# Altium footprint library LED.PcbLib: 48 footprints (part 1 of 3)
Each footprint in its own frame and in the unit in brackets; x right, y up, seen from the top. Pads: shape width x height; smd on the part's side, far side on the other; paste and mask are expansions set on the pad; w line width, h text height; cw(c..) or ccw(c..) is an arc to the next point about the centre after c.
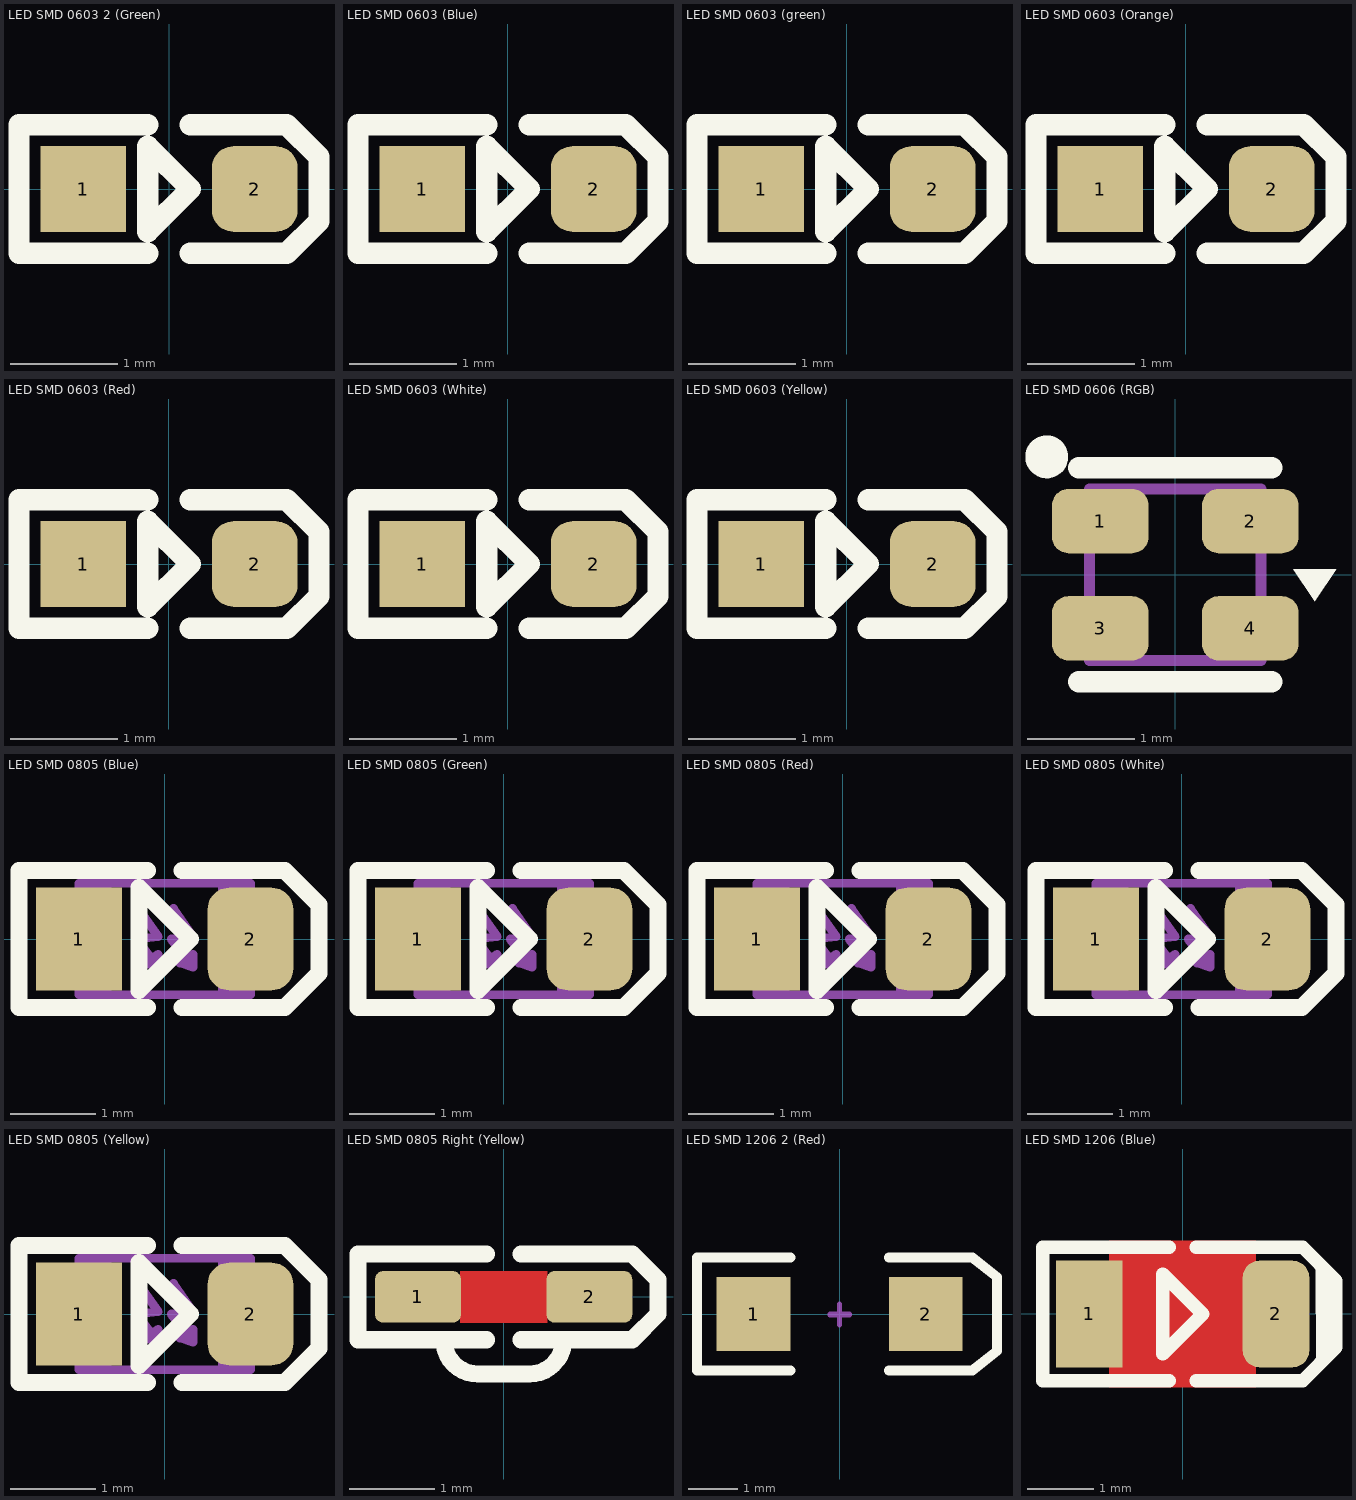
[diagram p0: the footprints below, top view; thin cyan lines are the x and y axes]

## LED SMD 0603 2 (Green) [mm]
pads (2):
  rect 0.8x0.8 smd mask+0.075: 1(-0.8,0)
  rrect50% 0.8x0.8 smd mask+0.075: 2(0.8,0)
Top Overlay:
  lines w0.2: -0.2,-0.6 -1.4,-0.6 -1.4,0.6 -0.2,0.6 ; 0.2,-0.6 1.1,-0.6 1.4,-0.3 1.4,0.3 1.1,0.6 0.2,0.6 ; -0.2,-0.4 -0.2,0.4 0.2,0 -0.2,-0.4
3D body "User Library-LTST-C190GKT.STEP": height 0.9, standoff 0, extent -0.85,-0.45 0.85,0.45

## LED SMD 0603 (Blue) [mm]
pads (2):
  rect 0.8x0.8 smd mask+0.075: 1(-0.8,0)
  rrect50% 0.8x0.8 smd mask+0.075: 2(0.8,0)
Top Overlay:
  lines w0.2: -0.2,-0.6 -1.4,-0.6 -1.4,0.6 -0.2,0.6 ; 0.2,-0.6 1.1,-0.6 1.4,-0.3 1.4,0.3 1.1,0.6 0.2,0.6 ; -0.2,-0.4 0.2,0 -0.2,0.4 -0.2,-0.4
3D body: height 0.5, standoff 0, extent -0.4,-0.3 0.4,0.3
3D body: height 0.4, standoff 0, extent -0.6,-0.4 0.6,0.4
3D body: height 0.4, standoff 0, extent -0.8,-0.4 -0.6,0.4
3D body: height 0.4, standoff 0, extent 0.6,-0.4 0.8,0.4

## LED SMD 0603 (green) [mm]
pads (2):
  rect 0.8x0.8 smd mask+0.075: 1(-0.8,0)
  rrect50% 0.8x0.8 smd mask+0.075: 2(0.8,0)
Top Overlay:
  lines w0.2: -0.2,-0.6 -1.4,-0.6 -1.4,0.6 -0.2,0.6 ; 0.2,-0.6 1.1,-0.6 1.4,-0.3 1.4,0.3 1.1,0.6 0.2,0.6 ; -0.2,-0.4 -0.2,0.4 0.2,0 -0.2,-0.4
3D body: height 0.5, standoff 0, extent -0.4,-0.3 0.4,0.3
3D body: height 0.4, standoff 0, extent -0.6,-0.4 0.6,0.4
3D body: height 0.4, standoff 0, extent -0.8,-0.4 -0.6,0.4
3D body: height 0.4, standoff 0, extent 0.6,-0.4 0.8,0.4

## LED SMD 0603 (Orange) [mm]
pads (2):
  rect 0.8x0.8 smd mask+0.075: 1(-0.8,0)
  rrect50% 0.8x0.8 smd mask+0.075: 2(0.8,0)
Top Overlay:
  lines w0.2: -0.2,-0.6 -1.4,-0.6 -1.4,0.6 -0.2,0.6 ; 0.2,-0.6 1.1,-0.6 1.4,-0.3 1.4,0.3 1.1,0.6 0.2,0.6 ; -0.2,-0.4 -0.2,0.4 0.2,0 -0.2,-0.4
3D body: height 0.4, standoff 0, extent 0.6,-0.4 0.8,0.4
3D body: height 0.4, standoff 0, extent -0.8,-0.4 -0.6,0.4
3D body: height 0.4, standoff 0, extent -0.6,-0.4 0.6,0.4
3D body: height 0.5, standoff 0, extent -0.4,-0.3 0.4,0.3

## LED SMD 0603 (Red) [mm]
pads (2):
  rect 0.8x0.8 smd mask+0.075: 1(-0.8,0)
  rrect50% 0.8x0.8 smd mask+0.075: 2(0.8,0)
Top Overlay:
  lines w0.2: -0.2,-0.6 -1.4,-0.6 -1.4,0.6 -0.2,0.6 ; 0.2,-0.6 1.1,-0.6 1.4,-0.3 1.4,0.3 1.1,0.6 0.2,0.6 ; -0.2,-0.4 0.2,0 -0.2,0.4 -0.2,-0.4
3D body: height 0.4, standoff 0, extent 0.6,-0.4 0.8,0.4
3D body: height 0.4, standoff 0, extent -0.8,-0.4 -0.6,0.4
3D body: height 0.4, standoff 0, extent -0.6,-0.4 0.6,0.4
3D body: height 0.5, standoff 0, extent -0.4,-0.3 0.4,0.3

## LED SMD 0603 (White) [mm]
pads (2):
  rect 0.8x0.8 smd mask+0.075: 1(-0.8,0)
  rrect50% 0.8x0.8 smd mask+0.075: 2(0.8,0)
Top Overlay:
  lines w0.2: -0.2,-0.6 -1.4,-0.6 -1.4,0.6 -0.2,0.6 ; 0.2,-0.6 1.1,-0.6 1.4,-0.3 1.4,0.3 1.1,0.6 0.2,0.6 ; -0.2,-0.4 -0.2,0.4 0.2,0 -0.2,-0.4
3D body: height 0.5, standoff 0, extent -0.4,-0.3 0.4,0.3
3D body: height 0.4, standoff 0, extent -0.6,-0.4 0.6,0.4
3D body: height 0.4, standoff 0, extent -0.8,-0.4 -0.6,0.4
3D body: height 0.4, standoff 0, extent 0.6,-0.4 0.8,0.4

## LED SMD 0603 (Yellow) [mm]
pads (2):
  rect 0.8x0.8 smd mask+0.075: 1(-0.8,0)
  rrect50% 0.8x0.8 smd mask+0.075: 2(0.8,0)
Top Overlay:
  lines w0.2: -0.2,-0.6 -1.4,-0.6 -1.4,0.6 -0.2,0.6 ; 0.2,-0.6 1.1,-0.6 1.4,-0.3 1.4,0.3 1.1,0.6 0.2,0.6 ; -0.2,-0.4 -0.2,0.4 0.2,0 -0.2,-0.4
3D body: height 0.5, standoff 0, extent -0.4,-0.3 0.4,0.3
3D body: height 0.4, standoff 0, extent -0.6,-0.4 0.6,0.4
3D body: height 0.4, standoff 0, extent -0.8,-0.4 -0.6,0.4
3D body: height 0.4, standoff 0, extent 0.6,-0.4 0.8,0.4

## LED SMD 0606 (RGB) [mm]
pads (4):
  rrect50% 0.9x0.6 smd: 1(-0.7,0.5) 2(0.7,0.5) 3(-0.7,-0.5) 4(0.7,-0.5)
Top Overlay:
  circle w0.2: c-1.2,1.1 r0.1
  region: 1.1,0.05 1.5,0.05 1.3,-0.25
  lines w0.2: -0.9,-1 0.9,-1 ; -0.9,1 0.9,1
Mechanical 13:
  lines w0.1: -0.8,-0.8 -0.8,0.8 0.8,0.8 0.8,-0.8 -0.8,-0.8
3D body "User Library-HSMF-C114.step": height 0.34, standoff -0.01, extent -0.8,-0.75 0.8,0.75

## LED SMD 0805 (Blue) [mm]
pads (2):
  rect 1x1.2 smd mask+0.075: 1(-1,0)
  rrect50% 1x1.2 smd mask+0.075: 2(1,0)
Top Overlay:
  lines w0.2: -0.2,-0.8 -1.7,-0.8 -1.7,0.8 -0.2,0.8 ; 0.2,-0.8 1.4,-0.8 1.8,-0.4 1.8,0.4 1.4,0.8 0.2,0.8 ; -0.3,-0.6 0.3,0 -0.3,0.6 -0.3,-0.6
Mechanical 13:
  region: 0.995,-0.19 0.842,-0.19 0.842,-0.65 0.995,-0.65
  region: 0.995,0.65 0.842,0.65 0.842,0.191 0.995,0.191
  region: 0.848,0.65 0.619,0.65 0.619,-0.65 0.848,-0.65
  rectangle: -0.995,-0.65 -0.842,-0.191
  rectangle: -0.995,0.19 -0.842,0.65
  rectangle: -0.848,-0.65 -0.619,0.65
  lines w0.102: -0.305,0.356 -0.076,0.025 -0.33,0 -0.076,-0.33 ; 0.102,0.356 0.33,0.025 0.076,0 0.33,-0.33 ; -0.076,-0.33 -0.229,-0.279 -0.076,-0.178 -0.076,-0.33 ; 0.33,-0.33 0.178,-0.279 0.33,-0.178 0.33,-0.33 ; -1,-0.65 -1,-0.191 ccw(c-1,0) -1,0.191 -1,0.65 1,0.65 1,0.191 ccw(c1,0) 1,-0.191 1,-0.65 -1,-0.65
3D body "User Library-Wurth Elektronik WL-SMCW 0805 (2012) LED Lens (Separate Body).step": height 0.7, standoff 0.3, extent -0.7,-0.625 0.7,0.625
3D body "User Library-Wurth Elektronik WL-SMCW 0805 (2012) LED Base (Separate Lens).step": height 0.64, standoff 0, extent -1,-0.625 1,0.625

## LED SMD 0805 (Green) [mm]
pads (2):
  rect 1x1.2 smd mask+0.075: 1(-1,0)
  rrect50% 1x1.2 smd mask+0.075: 2(1,0)
Top Overlay:
  lines w0.2: -0.2,-0.8 -1.7,-0.8 -1.7,0.8 -0.2,0.8 ; 0.2,-0.8 1.4,-0.8 1.8,-0.4 1.8,0.4 1.4,0.8 0.2,0.8 ; -0.3,-0.6 0.3,0 -0.3,0.6 -0.3,-0.6
Mechanical 13:
  region: 0.995,-0.19 0.842,-0.19 0.842,-0.65 0.995,-0.65
  region: 0.995,0.65 0.842,0.65 0.842,0.191 0.995,0.191
  region: 0.848,0.65 0.619,0.65 0.619,-0.65 0.848,-0.65
  rectangle: -0.995,-0.65 -0.842,-0.191
  rectangle: -0.995,0.19 -0.842,0.65
  rectangle: -0.848,-0.65 -0.619,0.65
  lines w0.102: -0.305,0.356 -0.076,0.025 -0.33,0 -0.076,-0.33 ; 0.102,0.356 0.33,0.025 0.076,0 0.33,-0.33 ; -0.076,-0.33 -0.229,-0.279 -0.076,-0.178 -0.076,-0.33 ; 0.33,-0.33 0.178,-0.279 0.33,-0.178 0.33,-0.33 ; -1,-0.65 -1,-0.191 ccw(c-1,0) -1,0.191 -1,0.65 1,0.65 1,0.191 ccw(c1,0) 1,-0.191 1,-0.65 -1,-0.65
3D body "User Library-Wurth Elektronik WL-SMCW 0805 (2012) LED Lens (Separate Body).step": height 0.7, standoff 0.3, extent -0.7,-0.625 0.7,0.625
3D body "User Library-Wurth Elektronik WL-SMCW 0805 (2012) LED Base (Separate Lens).step": height 0.64, standoff 0, extent -1,-0.625 1,0.625

## LED SMD 0805 (Red) [mm]
pads (2):
  rect 1x1.2 smd mask+0.075: 1(-1,0)
  rrect50% 1x1.2 smd mask+0.075: 2(1,0)
Top Overlay:
  lines w0.2: -0.2,-0.8 -1.7,-0.8 -1.7,0.8 -0.2,0.8 ; 0.2,-0.8 1.4,-0.8 1.8,-0.4 1.8,0.4 1.4,0.8 0.2,0.8 ; -0.3,-0.6 0.3,0 -0.3,0.6 -0.3,-0.6
Mechanical 13:
  region: 0.995,-0.19 0.842,-0.19 0.842,-0.65 0.995,-0.65
  region: 0.995,0.65 0.842,0.65 0.842,0.191 0.995,0.191
  region: 0.848,0.65 0.619,0.65 0.619,-0.65 0.848,-0.65
  rectangle: -0.995,-0.65 -0.842,-0.191
  rectangle: -0.995,0.19 -0.842,0.65
  rectangle: -0.848,-0.65 -0.619,0.65
  lines w0.102: -0.305,0.356 -0.076,0.025 -0.33,0 -0.076,-0.33 ; 0.102,0.356 0.33,0.025 0.076,0 0.33,-0.33 ; -0.076,-0.33 -0.229,-0.279 -0.076,-0.178 -0.076,-0.33 ; 0.33,-0.33 0.178,-0.279 0.33,-0.178 0.33,-0.33 ; -1,-0.65 -1,-0.191 ccw(c-1,0) -1,0.191 -1,0.65 1,0.65 1,0.191 ccw(c1,0) 1,-0.191 1,-0.65 -1,-0.65
3D body "User Library-Wurth Elektronik WL-SMCW 0805 (2012) LED Lens (Separate Body).step": height 0.7, standoff 0.3, extent -0.7,-0.625 0.7,0.625
3D body "User Library-Wurth Elektronik WL-SMCW 0805 (2012) LED Base (Separate Lens).step": height 0.64, standoff 0, extent -1,-0.625 1,0.625

## LED SMD 0805 (White) [mm]
pads (2):
  rect 1x1.2 smd mask+0.075: 1(-1,0)
  rrect50% 1x1.2 smd mask+0.075: 2(1,0)
Top Overlay:
  lines w0.2: -0.2,-0.8 -1.7,-0.8 -1.7,0.8 -0.2,0.8 ; 0.2,-0.8 1.4,-0.8 1.8,-0.4 1.8,0.4 1.4,0.8 0.2,0.8 ; -0.3,-0.6 0.3,0 -0.3,0.6 -0.3,-0.6
Mechanical 13:
  region: 0.995,-0.19 0.842,-0.19 0.842,-0.65 0.995,-0.65
  region: 0.995,0.65 0.842,0.65 0.842,0.191 0.995,0.191
  region: 0.848,0.65 0.619,0.65 0.619,-0.65 0.848,-0.65
  rectangle: -0.995,-0.65 -0.842,-0.191
  rectangle: -0.995,0.19 -0.842,0.65
  rectangle: -0.848,-0.65 -0.619,0.65
  lines w0.102: -0.305,0.356 -0.076,0.025 -0.33,0 -0.076,-0.33 ; 0.102,0.356 0.33,0.025 0.076,0 0.33,-0.33 ; -0.076,-0.33 -0.229,-0.279 -0.076,-0.178 -0.076,-0.33 ; 0.33,-0.33 0.178,-0.279 0.33,-0.178 0.33,-0.33 ; -1,-0.65 -1,-0.191 ccw(c-1,0) -1,0.191 -1,0.65 1,0.65 1,0.191 ccw(c1,0) 1,-0.191 1,-0.65 -1,-0.65
3D body "User Library-Wurth Elektronik WL-SMCW 0805 (2012) LED Lens (Separate Body).step": height 0.7, standoff 0.3, extent -0.7,-0.625 0.7,0.625
3D body "User Library-Wurth Elektronik WL-SMCW 0805 (2012) LED Base (Separate Lens).step": height 0.64, standoff 0, extent -1,-0.625 1,0.625

## LED SMD 0805 (Yellow) [mm]
pads (2):
  rect 1x1.2 smd mask+0.075: 1(-1,0)
  rrect50% 1x1.2 smd mask+0.075: 2(1,0)
Top Overlay:
  lines w0.2: -0.2,-0.8 -1.7,-0.8 -1.7,0.8 -0.2,0.8 ; 0.2,-0.8 1.4,-0.8 1.8,-0.4 1.8,0.4 1.4,0.8 0.2,0.8 ; -0.3,-0.6 0.3,0 -0.3,0.6 -0.3,-0.6
Mechanical 13:
  region: 0.995,-0.19 0.842,-0.19 0.842,-0.65 0.995,-0.65
  region: 0.995,0.65 0.842,0.65 0.842,0.191 0.995,0.191
  region: 0.848,0.65 0.619,0.65 0.619,-0.65 0.848,-0.65
  rectangle: -0.995,-0.65 -0.842,-0.191
  rectangle: -0.995,0.19 -0.842,0.65
  rectangle: -0.848,-0.65 -0.619,0.65
  lines w0.102: -0.305,0.356 -0.076,0.025 -0.33,0 -0.076,-0.33 ; 0.102,0.356 0.33,0.025 0.076,0 0.33,-0.33 ; -0.076,-0.33 -0.229,-0.279 -0.076,-0.178 -0.076,-0.33 ; 0.33,-0.33 0.178,-0.279 0.33,-0.178 0.33,-0.33 ; -1,-0.65 -1,-0.191 ccw(c-1,0) -1,0.191 -1,0.65 1,0.65 1,0.191 ccw(c1,0) 1,-0.191 1,-0.65 -1,-0.65
3D body "User Library-Wurth Elektronik WL-SMCW 0805 (2012) LED Lens (Separate Body).step": height 0.7, standoff 0.3, extent -0.7,-0.625 0.7,0.625
3D body "User Library-Wurth Elektronik WL-SMCW 0805 (2012) LED Base (Separate Lens).step": height 0.64, standoff 0, extent -1,-0.625 1,0.625

## LED SMD 0805 Right (Yellow) [mm]
pads (2):
  rrect30% 1x0.6 smd: 1(-1,0) 2(1,0)
Top Layer:
  pour cut-out: 0.508,-0.3 -0.508,-0.3 -0.508,0.3 0.508,0.3
Top Overlay:
  lines w0.2: -0.7,-0.5 ccw(c-0.3,-0.5) -0.3,-0.9 0.3,-0.9 ccw(c0.3,-0.5) 0.7,-0.5 ; -0.2,-0.5 -1.7,-0.5 -1.7,0.5 -0.2,0.5 ; 0.2,-0.5 1.5,-0.5 1.8,-0.2 1.8,0.2 1.5,0.5 0.2,0.5
3D body "LED_SIDELED-2.1x0.6x1.0 WHITE maxtol.STEP": height 0.7, standoff 0, extent -1.1,-0.8 1.1,0.3

## LED SMD 1206 2 (Red) [mm]
pads (2):
  rect 1.5x1.5 smd: 1(-1.75,0) 2(1.75,0)
Top Overlay:
  lines w0.2: -1,-1.15 -2.9,-1.15 -2.9,1.15 -1,1.15 ; 1,-1.15 2.7,-1.15 3.2,-0.75 3.2,0.75 2.7,1.15 1,1.15
Mechanical 1:
  lines w0.1: -0.2,-0.025 0.2,-0.025 ; -0.2,0 0.2,0 ; 0,-0.225 0,0.175 ; 0,-0.2 0,0.2
3D body "SW3dPS-LED_SMD_SML010L_Red.STEP": height 1.36, standoff 0.01, extent -1.65,-0.762 1.65,0.688

## LED SMD 1206 (Blue) [mm]
pads (2):
  rect 1x1.6 smd mask+0.075: 1(-1.4,0)
  rrect50% 1x1.6 smd mask+0.075: 2(1.4,0)
Top Layer:
  pour cut-out: -1.1,1.1 -1.1,-1.1 1.1,-1.1 1.1,1.1
Top Overlay:
  region: 2,0.7 2,-0.7 2.3,-0.4 2.3,0.4
  lines w0.2: -0.2,-1 -2.1,-1 -2.1,1 -0.2,1 ; 0.2,-1 1.8,-1 2.3,-0.5 2.3,0.5 1.8,1 0.2,1 ; -0.3,-0.6 0.3,0 -0.3,0.6 -0.3,-0.6
3D body "User Library-Wurth Elektronik WL-SMCW 1206 (3216) LED Lens (Separate Body).step": height 0.68, standoff 0.28, extent -1,-0.8 1,0.8
3D body "User Library-Wurth Elektronik WL-SMCW 1206 (3216) LED Base (Separate Lens).step": height 0.62, standoff 0, extent -1.6,-0.8 1.6,0.8